# EAGLE library part IC_UC_PIC10F22* (library dp_devices)
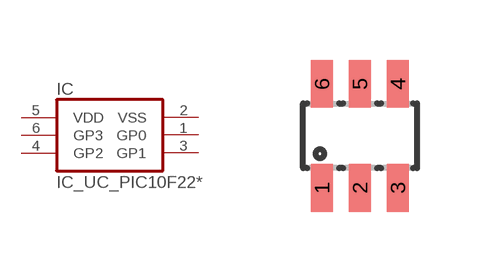
[diagram p68: symbol with the pads of SOT-23-6; footprint SOT-23-6]

Designator prefix IC

## IC_UC_PIC10F22  [SOT-23-6]
1  GP0
2  VSS  pwr
3  GP1
4  GP2
5  VDD  pwr
6  GP3

## Footprint SOT-23-6 (pad centres in mm)
smd 0.55 x 1.2: 1 -0.95,-1.3; 2 0,-1.3; 3 0.95,-1.3; 4 0.95,1.3; 5 0,1.3; 6 -0.95,1.3